# Altium schematic symbol library 4xTVS.SchLib: 1 symbol
Pins are listed as number, name and electrical type; pins without a type are passive.

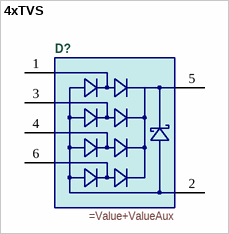
[diagram p0: symbol 4xTVS]

## 4xTVS
designator D?
=Description
pins: 1, 2, 3, 4, 5, 6